# Altium footprint library RF-UNIT-QRP.PcbLib: 42 footprints (part 3 of 3)
Each footprint in its own frame and in the unit in brackets; x right, y up, seen from the top. Pads: shape width x height; smd on the part's side, far side on the other; paste and mask are expansions set on the pad; w line width, h text height; cw(c..) or ccw(c..) is an arc to the next point about the centre after c.
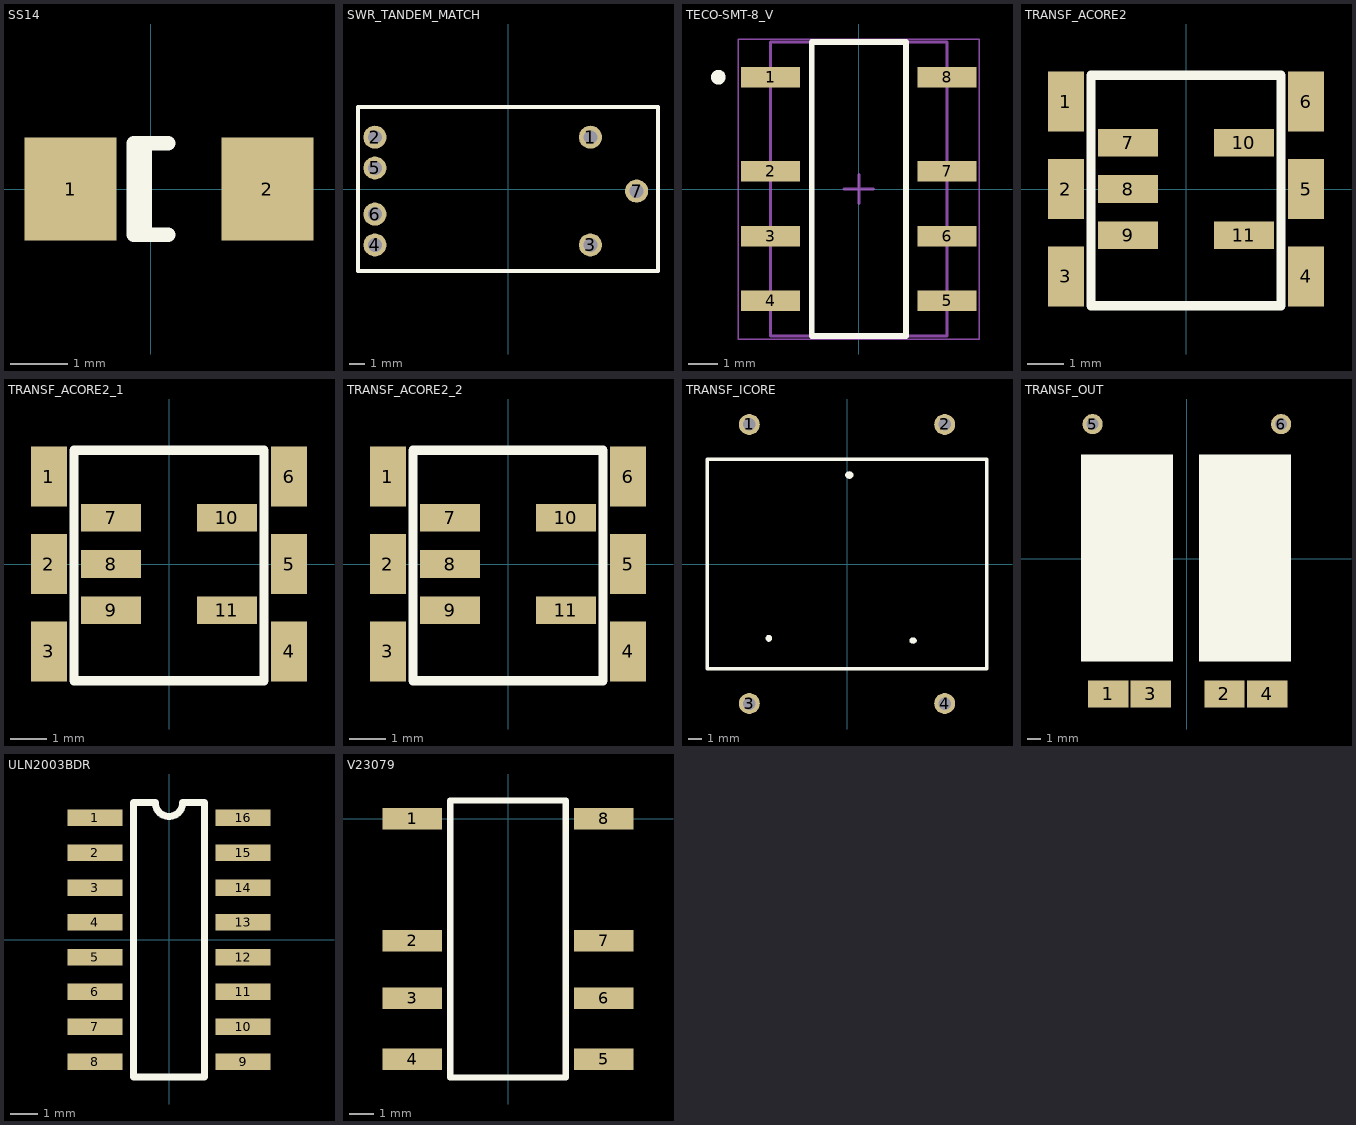
[diagram p2: the footprints below, top view; thin cyan lines are the x and y axes]

## SS14 [mm]
pads (2):
  rect 1.6x1.8 smd: 1(-1.4,0) 2(2.032,0)
Top Overlay:
  lines w0.254: -0.111,-0.799 -0.111,0.799 ; 0.299,-0.799 -0.299,-0.799 -0.3,0.799 0.299,0.799

## SWR_TANDEM_MATCH [mm]
pads (7):
  round 1.5 hole 0.9: 1(5.355,3.365) 2(-8.645,3.365) 3(5.355,-3.635) 4(-8.645,-3.635) 5(-8.645,1.365) 6(-8.645,-1.635) 7(8.355,-0.135)
Top Overlay:
  lines w0.254: -9.745,-5.335 -9.745,5.335 9.745,5.335 9.745,-5.335 -9.745,-5.335

## TECO-SMT-8_V [mm] "SMT, 8-Leads, Body 10 x 6 mm"
height 5.65
pads (8):
  rect 2x0.7 smd paste+0: 1(-3,3.8) 2(-3,0.6) 3(-3,-1.6) 4(-3,-3.8) 5(3,-3.8) 6(3,-1.6) 7(3,0.6) 8(3,3.8)
Top Overlay:
  circle w0.25: c-4.778,3.8 r0.125
  lines w0.2: -1.6,-5 1.6,-5 1.6,5 -1.6,5 -1.6,-5
Mechanical 13:
  lines w0.1: -3,-5 3,-5 3,5 -3,5 -3,-5
Mechanical 15:
  lines w0.05: -4.1,-5.1 4.1,-5.1 4.1,5.1 -4.1,5.1 -4.1,-5.1
  lines w0.1: -0.5,0 0.5,0 ; 0,-0.5 0,0.5
3D body: height 5.65, standoff 0, extent -3,-5 3,5

## TRANSF_ACORE2 [mm]
pads (11):
  rect 1x1.65 smd: 1(-3.3,2.4) 2(-3.3,0) 3(-3.3,-2.4) 4(3.3,-2.4) 5(3.3,0) 6(3.3,2.4)
  rect 1.65x0.76 smd: 7(-1.59,1.27) 8(-1.59,0) 9(-1.59,-1.27) 10(1.59,1.27) 11(1.59,-1.27)
Top Overlay:
  lines w0.254: -2.61,-3.21 2.61,-3.21 2.61,3.13 -2.61,3.13 -2.61,-3.21

## TRANSF_ACORE2_1 [mm]
pads (11):
  rect 1x1.65 smd: 1(-3.3,2.4) 2(-3.3,0) 3(-3.3,-2.4) 4(3.3,-2.4) 5(3.3,0) 6(3.3,2.4)
  rect 1.65x0.76 smd: 7(-1.59,1.27) 8(-1.59,0) 9(-1.59,-1.27) 10(1.59,1.27) 11(1.59,-1.27)
Top Overlay:
  lines w0.254: -2.61,-3.21 -2.61,3.13 2.61,3.13 2.61,-3.21 -2.61,-3.21

## TRANSF_ACORE2_2 [mm]
pads (11):
  rect 1x1.65 smd: 1(-3.3,2.4) 2(-3.3,0) 3(-3.3,-2.4) 4(3.3,-2.4) 5(3.3,0) 6(3.3,2.4)
  rect 1.65x0.76 smd: 7(-1.59,1.27) 8(-1.59,0) 9(-1.59,-1.27) 10(1.59,1.27) 11(1.59,-1.27)
Top Overlay:
  lines w0.254: -2.61,-3.21 -2.61,3.13 2.61,3.13 2.61,-3.21 -2.61,-3.21

## TRANSF_ICORE [mm]
pads (4):
  round 1.5 hole 0.9: 1(-7,10) 2(7,10) 3(-7,-10) 4(7,-10)
Top Overlay:
  region: 4.99,-5.485 4.986,-5.447 4.975,-5.411 4.956,-5.377 4.93,-5.346 4.899,-5.32 4.862,-5.299 4.822,-5.283 4.779,-5.273 4.735,-5.27 4.691,-5.273 4.648,-5.283 4.607,-5.299 4.571,-5.32 4.54,-5.346 4.514,-5.377 4.495,-5.411 4.484,-5.447 4.48,-5.485 4.484,-5.522 4.495,-5.558 4.514,-5.592 4.54,-5.623 4.571,-5.649 4.607,-5.671 4.648,-5.687 4.691,-5.696 4.735,-5.7 4.779,-5.696 4.822,-5.687 4.862,-5.671 4.899,-5.649 4.93,-5.623 4.956,-5.592 4.975,-5.558 4.986,-5.522
  region: -5.38,-5.325 -5.383,-5.284 -5.393,-5.244 -5.409,-5.207 -5.432,-5.173 -5.459,-5.144 -5.49,-5.121 -5.525,-5.103 -5.562,-5.093 -5.6,-5.089 -5.638,-5.093 -5.675,-5.103 -5.71,-5.121 -5.741,-5.144 -5.769,-5.173 -5.79,-5.207 -5.807,-5.244 -5.817,-5.284 -5.82,-5.325 -5.817,-5.365 -5.807,-5.405 -5.79,-5.442 -5.769,-5.476 -5.741,-5.505 -5.71,-5.528 -5.675,-5.546 -5.638,-5.556 -5.6,-5.56 -5.562,-5.556 -5.525,-5.546 -5.49,-5.528 -5.459,-5.505 -5.432,-5.476 -5.409,-5.442 -5.393,-5.405 -5.383,-5.365
  region: 0.46,6.376 0.456,6.42 0.443,6.463 0.421,6.503 0.392,6.54 0.356,6.571 0.315,6.596 0.269,6.615 0.22,6.627 0.17,6.631 0.12,6.627 0.071,6.615 0.025,6.596 -0.016,6.571 -0.052,6.54 -0.081,6.503 -0.102,6.463 -0.116,6.42 -0.12,6.376 -0.116,6.332 -0.102,6.289 -0.081,6.248 -0.052,6.212 -0.016,6.181 0.025,6.155 0.071,6.136 0.12,6.125 0.17,6.121 0.22,6.125 0.269,6.136 0.315,6.155 0.356,6.181 0.392,6.212 0.421,6.248 0.443,6.289 0.456,6.332
  lines w0.254: -10,-7.499 -10,7.499 10,7.499 10,-7.499 -10,-7.499

## TRANSF_OUT [mm]
pads (6):
  rect 3x2 smd: 1(-5.842,-10.033) 2(2.794,-10.033) 3(-2.667,-10.033) 4(5.969,-10.033)
  round 1.5 hole 0.9: 5(-7,10) 6(7,10)
Top Overlay:
  rectangle: -7.874,-7.62 -1.016,7.747
  rectangle: 0.889,-7.62 7.747,7.747

## ULN2003BDR [mm]
pads (16):
  rect 2x0.6 smd: 1(-2.7,4.445) 2(-2.7,3.175) 3(-2.7,1.905) 4(-2.7,0.635) 5(-2.7,-0.635) 6(-2.7,-1.905) 7(-2.7,-3.175) 8(-2.7,-4.445) 9(2.7,-4.445) 10(2.7,-3.175) 11(2.7,-1.905) 12(2.7,-0.635) 13(2.7,0.635) 14(2.7,1.905) 15(2.7,3.175) 16(2.7,4.445)
Top Overlay:
  lines w0.254: -1.3,-5 1.3,-5 1.3,5 0.5,5 cw(c0,5) -0.5,5 -1.3,5 -1.3,-5

## V23079 [mm]
pads (8):
  rect 2.5x0.9 smd: 1(-4,0) 2(-4,-5.08) 3(-4,-7.49) 4(-4,-10.03) 5(4,-10.03) 6(4,-7.49) 7(4,-5.08) 8(4,0)
Top Overlay:
  lines w0.254: -2.413,-10.795 2.413,-10.795 2.413,0.762 -2.413,0.762 -2.413,-10.795